# EAGLE library part TPS71928-28DRVT (library U-TI-TPS71928-28-VoltageReg)
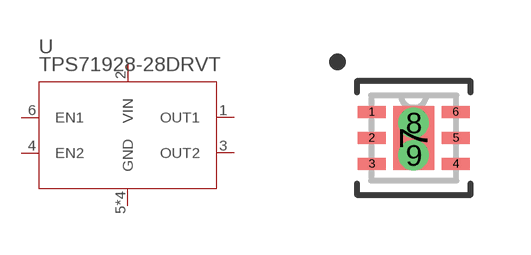
[diagram p0: symbol with the pads of DRV6_1P6X1; footprint DRV6_1P6X1]

Designator prefix U

## TPS71928-28DRVT (DPN: 296-21660-1-ND; MPN: TPS71928-28DRVR; VENDOR: Texas Instruments)  [DRV6_1P6X1]
1  OUT1  pwr
2  VIN  pwr
3  OUT2  pwr
4  EN2  pas
5  GND  pwr
6  EN1  pas
7  GND  pwr
8  GND  pwr
9  GND  pwr

## Footprint DRV6_1P6X1 (pad centres in mm)
smd 0.7 x 0.3: 1 -1.05,0.65; 2 -1.05,0; 3 -1.05,-0.65; 4 1.05,-0.65; 5 1.05,0; 6 1.05,0.65
smd 1.016 x 1.6: 7 0,0
drill 0.254 pad 0.508: 8 0,0.375; 9 0,-0.438